# EAGLE library part ADP1613 (library ADP1613aka)
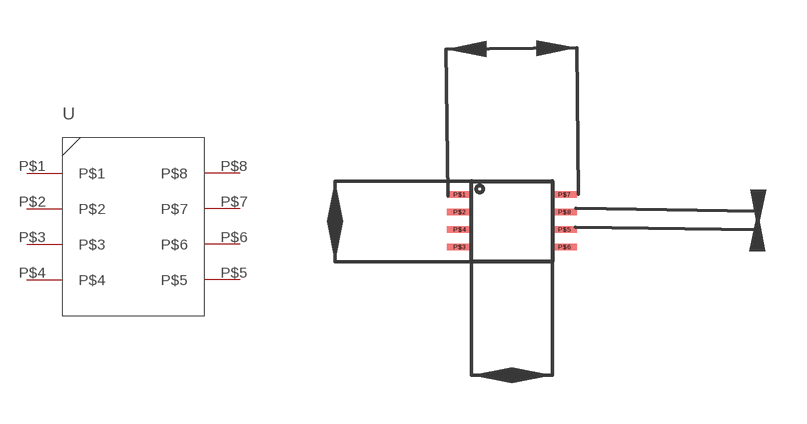
[diagram p0: symbol with the pads of FOOTPRINT-ADP1613; footprint FOOTPRINT-ADP1613]

Designator prefix -

## ADP1613  [FOOTPRINT-ADP1613]
P$1  P$1
P$2  P$2
P$3  P$3
P$4  P$4
P$5  P$5
P$6  P$6
P$7  P$7
P$8  P$8

## Footprint FOOTPRINT-ADP1613 (pad centres in mm)
smd 0.95 x 0.25: P$1 -0.45,2.5; P$2 -0.45,1.85; P$3 -0.45,0.55; P$4 -0.45,1.2; P$5 3.45,1.2; P$6 3.45,0.55; P$7 3.45,2.5; P$8 3.45,1.85